# Altium schematic symbol library Mechanical.SchLib: 21 symbols
Pins are listed as number, name and electrical type; pins without a type are passive.

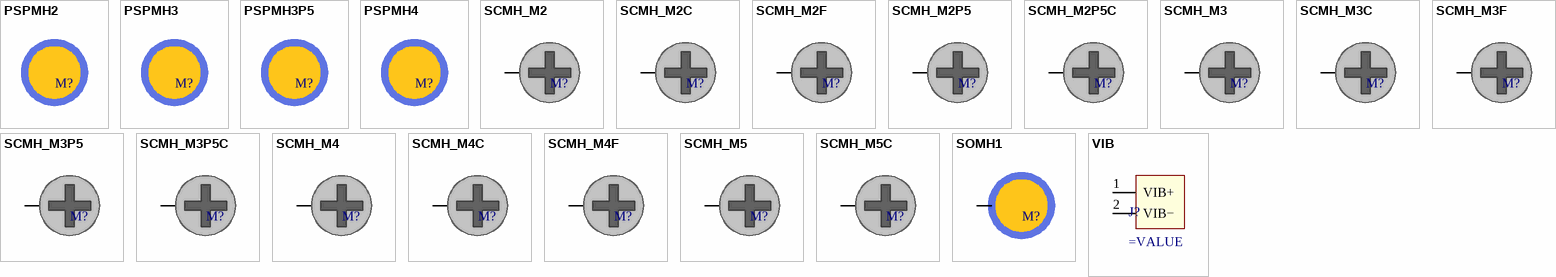
[diagram p0: symbols PSPMH2 to VIB]

## PSPMH2
designator M?, comment DNP/MH  (value not drawn)  (mechanical)
Plastic Spacer mouting, Hole 2mm; ASSEMBLY: DNP; VALUE: DNP/MH
footprint PSPMH2 (Plastic Spacer mouting, Hole 2mm)

## PSPMH3
designator M?, comment DNP/MH  (value not drawn)  (mechanical)
Plastic Spacer mouting, Hole 3mm; ASSEMBLY: DNP; VALUE: DNP/MH
footprint PSPMH3 (Plastic Spacer mouting, Hole 3mm)

## PSPMH3P5
designator M?, comment DNP/MH  (value not drawn)  (mechanical)
Plastic Spacer mouting, Hole 3.5mm; ASSEMBLY: DNP; VALUE: DNP/MH
footprint PSPMH3P5 (Plastic Spacer mouting, Hole 3.5mm)

## PSPMH4
designator M?, comment DNP/MH  (value not drawn)  (mechanical)
Plastic Spacer mouting, Hole 4mm; ASSEMBLY: DNP; VALUE: DNP/MH
footprint PSPMH4 (Plastic Spacer mouting, Hole 4mm)

## SCMH_M2
designator M?, comment DNP/MH  (value not drawn)  (no BOM)
SCREW mouting, M2, 2.0mm diameter and 4.0mm PanHead; ASSEMBLY: DNP; VALUE: DNP/MH
footprint SCMH_M2 (SCREW mouting, M2, 2.0mm diameter and 4.0mm PanHead)
pins: 1

## SCMH_M2C
designator M?, comment DNP/MH  (value not drawn)  (no BOM)
SCREW mouting, M2, 2.0mm diameter and 3.2mm CheeseHead; ASSEMBLY: DNP; VALUE: DNP/MH
footprint SCMH_M2C (SCREW mouting, M2, 2.0mm diameter and 3.2mm CheeseHead)
pins: 1

## SCMH_M2F
designator M?, comment DNP/MH  (value not drawn)  (no BOM)
SCREW mouting, M2, 2.0mm diameter and 5.0mm FlangeHead; ASSEMBLY: DNP; VALUE: DNP/MH
footprint SCMH_M2F (SCREW mouting, M2, 2.0mm diameter and 5.0mm FlangeHead)
pins: 1

## SCMH_M2P5
designator M?, comment DNP/MH  (value not drawn)  (no BOM)
SCREW mouting, M2.5, 2.5mm diameter and 5.0mm PanHead; ASSEMBLY: DNP; VALUE: DNP/MH
footprint SCMH_M2P5 (SCREW mouting, M2.5, 2.5mm diameter and 5.0mm PanHead)
pins: 1

## SCMH_M2P5C
designator M?, comment DNP/MH  (value not drawn)  (no BOM)
SCREW mouting, M2.5, 2.5mm diameter and 5.0mm CheeseHead; ASSEMBLY: DNP; VALUE: DNP/MH
footprint SCMH_M2P5C (SCREW mouting, M2.5, 2.5mm diameter and 5.0mm CheeseHead)
pins: 1

## SCMH_M3
designator M?, comment DNP/MH  (value not drawn)  (no BOM)
SCREW mouting, M3, 3.0mm diameter and 6.0mm PanHead; ASSEMBLY: DNP; VALUE: DNP/MH
footprint SCMH_M3 (SCREW mouting, M3, 3.0mm diameter and 6.0mm PanHead)
pins: 1

## SCMH_M3C
designator M?, comment DNP/MH  (value not drawn)  (no BOM)
SCREW mouting, M3, 3.0mm diameter and 6.0mm CheeseHead; ASSEMBLY: DNP; VALUE: DNP/MH
footprint SCMH_M3C (SCREW mouting, M3, 3.0mm diameter and 6.0mm CheeseHead)
pins: 1

## SCMH_M3F
designator M?, comment DNP/MH  (value not drawn)  (no BOM)
SCREW mouting, M3, 3.0mm diameter and 6.0mm FlangeHead; ASSEMBLY: DNP; VALUE: DNP/MH
footprint SCMH_M3F (SCREW mouting, M3, 3.0mm diameter and 6.0mm FlangeHead)
pins: 1

## SCMH_M3P5
designator M?, comment DNP/MH  (value not drawn)  (no BOM)
SCREW mouting, M3.5, 3.5mm diameter and 7.0mm PanHead; ASSEMBLY: DNP; VALUE: DNP/MH
footprint SCMH_M3P5 (SCREW mouting, M3.5, 3.5mm diameter and 7.0mm PanHead)
pins: 1

## SCMH_M3P5C
designator M?, comment DNP/MH  (value not drawn)  (no BOM)
SCREW mouting, M3.5, 3.5mm diameter and 7.0mm CheeseHead; ASSEMBLY: DNP; VALUE: DNP/MH
footprint SCMH_M3P5C (SCREW mouting, M3.5, 3.5mm diameter and 7.0mm CheeseHead)
pins: 1

## SCMH_M4
designator M?, comment DNP/MH  (value not drawn)  (no BOM)
SCREW mouting, M4, 4mm diameter and 8.0mm PanHead; ASSEMBLY: DNP; VALUE: DNP/MH
footprint SCMH_M4 (SCREW mouting, M4, 4mm diameter and 8.0mm PanHead)
pins: 1

## SCMH_M4C
designator M?, comment DNP/MH  (value not drawn)  (no BOM)
SCREW mouting, M4, 4mm diameter and 8.0mm CheeseHead; ASSEMBLY: DNP; VALUE: DNP/MH
footprint SCMH_M4C (SCREW mouting, M4, 4mm diameter and 8.0mm CheeseHead)
pins: 1

## SCMH_M4F
designator M?, comment DNP/MH  (value not drawn)  (no BOM)
SCREW mouting, M4, 4mm diameter and 8.0mm FlangeHead; ASSEMBLY: DNP; VALUE: DNP/MH
footprint SCMH_M4F (SCREW mouting, M4, 4mm diameter and 8.0mm FlangeHead)
pins: 1

## SCMH_M5
designator M?, comment DNP/MH  (value not drawn)  (no BOM)
SCREW mouting, M5, 5mm diameter and 10.0mm PanHead; ASSEMBLY: DNP; VALUE: DNP/MH
footprint SCMH_M5 (SCREW mouting, M5, 5mm diameter and 10.0mm PanHead)
pins: 1

## SCMH_M5C
designator M?, comment DNP/MH  (value not drawn)  (no BOM)
SCREW mouting, M5, 5mm diameter and 10.0mm CheeseHead; ASSEMBLY: DNP; VALUE: DNP/MH
footprint SCMH_M5C (SCREW mouting, M5, 5mm diameter and 10.0mm CheeseHead)
pins: 1

## SOMH1
designator M?, comment DNP/MH  (value not drawn)  (no BOM)
Solder Mounting, Hole 1mm; ASSEMBLY: DNP; VALUE: DNP/MH
footprint SOMH1 (Solder Mounting, Hole 1mm)
pins: 1

## VIB
designator J?
VIB
footprint VIB
pins: 1 VIB+, 2 VIB−